# Altium schematic symbol library CBU-PCB.SchLib: 22 symbols
Pins are listed as number, name and electrical type; pins without a type are passive.

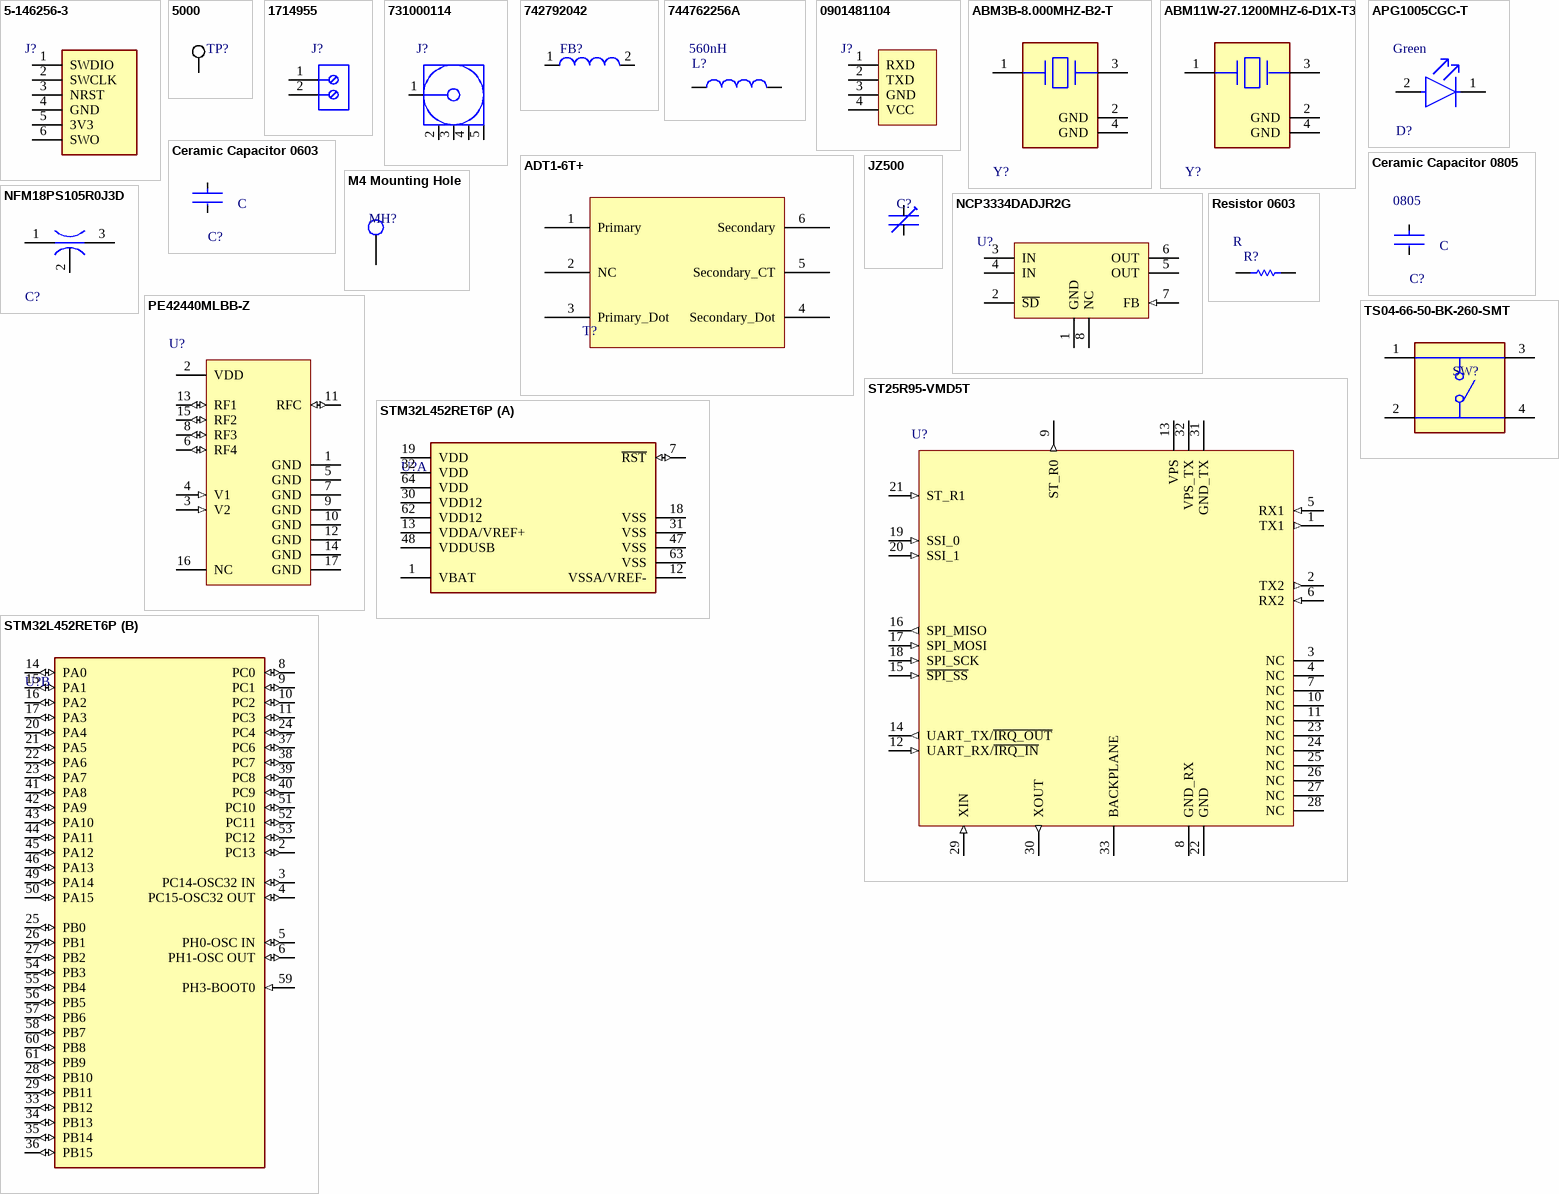
[diagram p0: symbols 5-146256-3 to TS04-66-50-BK-260-SMT]

## 5-146256-3
designator J?
Header; Breakaway; 0.100 x 0.100 in.; PC Board; Dual; 6; 0.025 in.; 0.12 in.; Centerline_Pitch: 2.54 mm[.1 in]; MP: 5-146256-3; Number_of_Positions: 6; MF: TE Connectivity; Product_Type: Connector; TE_purchase_URL: https://www.te.com/usa-en/product-5-146256-3.html?te_bu=Cor&te_type=disp&te_campaign=seda_glo_cor-seda-global-disp-prtnr-fy19-seda-model-bom-cta_sma-317_1&elqCampaignId=32493; SnapEDA_Link: https://www.snapeda.com/parts/5-146256-3/TE%20Connectivity/view-part/486039/?ref=snap; EU_RoHS_Compliance: Compliant; Value: *; Package: None; Digi-Key_Part_Number: A121369-ND; Digi-Key_Purchase_URL: https://www.digikey.com/product-detail/en/te-connectivity-amp-connectors/5-146256-3/A121369-ND/1153559?utm_source=snapeda&utm_medium=aggregator&utm_campaign=symbol; Supplier 1: Arrow Electronics; Supplier Part Number 1: 5-146256-3
footprint TE_5-146256-3
pins: 1 SWDIO, 2 SWCLK, 3 NRST, 4 GND, 5 3V3, 6 SWO

## 5000
designator TP?
Red PC Test Point, Miniature Phosphor Bronze Silver Plating Through Hole Mounting Type; Connector Type: Interconnection Device; Contact Finish - Termination: Silver (Ag); Reach SVHC Compliant: Yes; JESD-609 Code: e4; RoHS Compliant: Yes; Pins: 1; Mounting Technology: THT; Supplier 1: Future Electronics; Supplier Part Number 1: 8000564
footprint FP-5000-MFG
pins: 1

## 1714955
designator J?
PC Terminal Block, Pitch 6.35 mm, 1 x 2 Position, Height 21.5 mm, Tail Lenght 5.1 mm, RoHS, Bulk; Manufacturer: Phoenix Contact; Package Description: PC Terminal Block, Pitch 6.35 mm, 1 x 2 Position, Height 21.5 mm, Tail Lenght 5.1 mm; Datasheet URL: http://media.digikey.com/pdf/Data%20Sheets/Phoenix%20Contact%20PDFs/1714955.pdf; Package Reference: 1714955; Manufacturer URL: http://www.phoenixcontact.com/; Datasheet Version: 02/2010; Mounting Technology: ThroughHole; Supplier 1: Arrow Electronics; Supplier Part Number 1: 1714955
footprint 1714955 (Terminal Block, 2-Leads, Body 12.7x12.5mm, Pitch 6.35mm)
pins: 1, 2

## 731000114
designator J?
SMA Right-Angle PCB Jack Receptacle, Brass Body, Gold Plated, 50 Ohm, 5-Pin THD, RoHS, Tray; Manufacturer: Molex; Datasheet Version: 09/2016; Package Description: 5-Pin Through Hole Device, Body 14.8 x 6.35 mm, Pitch 2.54 mm; Datasheet URL: http://www.molex.com/webdocs/datasheets/pdf/en-us/0731000114_RF_COAX_CONNECTORS.pdf; Manufacturer URL: http://www.molex.com/; Package Reference: 731000114; Mounting Technology: ThroughHole; Package URL: http://www.molex.com/pdm_docs/sd/731000114_sd.pdf
footprint 731000114_V (Connector, 5-Leads, Body 14.8x6.35mm, Pitch 2.54mm)
pins: 1, 2, 3, 4, 5

## 742792042
designator FB?
SMD EMI Suppression Ferrite Bead WE-CBF, Z = 600 Ohm; Impedance: 600 Ohm; PackageDescription: Chip Inductor, 2-Leads, Body 2.0 x 1.2 mm; ComponentLink1Description: Manufacturer Link; PackageVersion: 2005; PackageReference: SMD-0805; ComponentLink2URL: http://www.we-online.de/katalog/media/pdf/742792042.pdf; ComponentLink2Description: Datasheet; DatasheetVersion: Dec-2005; ComponentLink1URL: http://www.we-online.com; Supplier 1: Digi-Key; Supplier Part Number 1: 732-4642-1-ND
footprint 742792042 (Chip Inductor, 2-Leads, Body 2.0x1.2mm)
pins: 1, 2

## 744762256A
designator L?  Inductance: 560nH
744762256A General Purpose Inductor, 0.56uH, 5%, 1 Element, Ceramic-Core, SMD, 1008; NexarPartId: 23392503; Max DC Current: 310mA; Frequency: 100MHz; Resistance: 1.17Ω; DC Resistance (DCR): 1.5Ω; Q Factor: 45; Shielding: Unshielded; Self Resonant Frequency: 430MHz; Inductance Tolerance: 5%; Packaging: Digi-Reel®; Case/Package: 1008; Core Material: Ceramic; Composition: Ceramic, Wirewound; Material: Ceramic; Termination: SMD/SMT; Case Code (Imperial): 1008; Weight: 20mg; Max Operating Temperature: 125°C; Current Rating: 310mA; Length: 2.5mm; Min Operating Temperature: -40°C; Height - Seated (Max): 1.905mm; Height: 1.6mm; Series Resistance: 1.5Ω; RoHS: Compliant; Ambient Temperature Range Low: -40°C; Width: 2mm; Mount: Surface Mount; Ambient Temperature Range High: 110°C; Test Frequency: 100MHz; Case Code (Metric): 2520; Tolerance: 5%; REACH SVHC: Unknown; Supplier 1: Digi-Key; Supplier Part Number 1: 732-1829-1-ND
footprint 744762256A (SMD Wire Wound Ceramic Inductor, body 2.50x2.00mm)
pins: 1, 2

## 0901481104
designator J?
4 Position Receptacle Connector 0.100" (2.54mm) Through Hole, Right Angle Tin, connector for DSD TECH HM-10 Bluetooth 4.0 BLE iBeacon UART Module with 4PIN Base Board for Arduino UNO R3 Mega 2560 Nan; Supplier 1: Mouser; Supplier Part Number 1: 538-90148-1104
footprint 0901481104 (4-pin right angle THT 0.1" pitch header with strain relief)
pins: 1 RXD, 2 TXD, 3 GND, 4 VCC

## ABM3B-8.000MHZ-B2-T
designator Y?
Crystal 8MHz ±20ppm 18pF SMD-4 5mm x 3.2mm; ESR (Equivalent Series Resistance): 200R; Frequency Stability: 50ppm; Operating Frequency: 8 MHz; Mount: Surface Mount; Number of Pins: 4; Packaging: Tape and Reel; Width: 0.126inch; Case/Package: CSMD; Lead Free: Lead Free; Depth: 3.2mm; Load Capacitance: 18pF; Min Operating Temperature: -20°C; Series: ABM3B; Package Quantity: 1000; Resistor Type: Ceramic; Height: 0.043inch; Max Operating Temperature: 70°C; Frequency Tolerance: 20ppm; Series Resistance: 200R; Tolerance: 20ppm; Termination: SMD/SMT; Length: 5mm; Frequency: 8MHz; Supplier 1: Future Electronics; Supplier Part Number 1: 2481760
footprint FP-ABM3B-MFG (Crystal 4-SMD, No Lead)
pins: 1, 2 GND (power), 3, 4 GND (power)

## ABM11W-27.1200MHZ-6-D1X-T3
designator Y?
Crystal 27.12MHz ±10ppm 6pF SMD-4 2mm x 1.6mm; ESR (Equivalent Series Resistance): 100R; Frequency Stability: 20ppm; Load Capacitance: 6pF; Case/Package: SMD/SMT; Min Operating Temperature: -40°C; Max Operating Temperature: 85°C; Frequency: 27.12MHz; Frequency Tolerance: 10ppm; Mount: Surface Mount; Packaging: Tape and Reel; Supplier 1: Digi-Key; Supplier Part Number 1: 535-13879-1-ND
footprint FP-ABM11W-MFG
pins: 1, 2 GND (power), 3, 4 GND (power)

## ADT1-6T+
designator T?
RF Balun 30kHz ~ 125MHz 50 / 50Ohm 6-SMD, Flat Leads; Supplier 1: Digi-Key; Supplier Part Number 1: 3157-ADT1-6T+CT-ND
footprint ADT1-6T+
pins: 1 Primary, 2 NC, 3 Primary_Dot, 4 Secondary_Dot, 5 Secondary_CT, 6 Secondary

## APG1005CGC-T
designator D?  Color: Green
LED GREEN CLEAR CHIP SMD; Forward Voltage: 2V; Lens Color: Colorless; Test Current: 20mA; Dominant Wavelength: 571nm; Viewing Angle: 120°; Luminous Intensity: 35mcd; Width: 0.5mm; Case Code (Imperial): 0402; Package Quantity: 1; Case/Package: 0402; Packaging: Tape and Reel; Height: 0.25mm; Mount: Surface Mount; Case Code (Metric): 1005; Length: 1mm; Lead Free: Lead Free; Lens Transparency: Clear; Supplier 1: Digi-Key; Supplier Part Number 1: 754-1811-1-ND
footprint FP-APG1005CGC-T-MFG
pins: 1 C, 2 A

## Ceramic Capacitor 0603
designator C?  value C
CAP CER 50V X7R 0603; Manufacturer: KEMET; Manufacturer Part Number: C0603C104K5RACTU; Tolerance: 0.1; Temperature Coefficient: 30ppm/°C; Material: Ceramic; Automotive Grade: Grade 1; Temperature: -55°C to +125°C; RoHS: TRUE; Temperature Range High: +125°C; Lead Free: Yes; Octopart: https://octopart.com/c0603c104k5ractu-kemet-139244; Digikey Description: CAP CER 0.1UF 50V X7R 0603; Category: Cap; Package: C0603C-CF; ComponentLink2Description: Datasheet; Temperature Range Low: -55°C; Device Class L1: Passive Components; Voltage Rating: 50 V; Automotive: Yes; Device Class L3: Ceramic Capacitors; ComponentLink2URL: https://api.kemet.com/component-edge/download/datasheet/C0603C100J5GACAUTO.pdf; Device Class L2: Capacitors; Temperature Characteristic: X7R; Height: 0.87mm; Supplier 1: Arrow Electronics; Supplier Part Number 1: CL10B104KB8NNNC
footprint FP-0603-Capacitor-CL10-IPC_B
pins: 1, 2

## Ceramic Capacitor 0805
designator C?  value C  Package: 0805
CAP CER 50V X7R 0805; Manufacturer: KEMET; Manufacturer Part Number: C0603C104K5RACTU; Tolerance: 0.1; Temperature Coefficient: 30ppm/°C; Material: Ceramic; Automotive Grade: Grade 1; Temperature: -55°C to +125°C; RoHS: TRUE; Temperature Range High: +125°C; Lead Free: Yes; Octopart: https://octopart.com/c0603c104k5ractu-kemet-139244; Digikey Description: CAP CER 0.1UF 50V X7R 0603; Category: Cap; ComponentLink2Description: Datasheet; Temperature Range Low: -55°C; Device Class L1: Passive Components; Voltage Rating: 50 V; Automotive: Yes; Device Class L3: Ceramic Capacitors; ComponentLink2URL: https://api.kemet.com/component-edge/download/datasheet/C0603C100J5GACAUTO.pdf; Device Class L2: Capacitors; Temperature Characteristic: X7R; Height: 0.87mm; Supplier 1: Arrow Electronics; Supplier Part Number 1: CL21B105KBFNNNG
footprint FP-0805-Capacitor-CL21-IPC_B
pins: 1, 2

## JZ500
designator C?
8 ~ 50pF Trimmer Capacitor 125 V Top Surface Mount
footprint JZXXX_Trim_Capacitor (Trimmer Capacitor Top Surface Mount)
pins: 1, 2

## M4 Mounting Hole
designator MH?
footprint M4 Mounting Hole
pins: 1

## NCP3334DADJR2G
designator U?
Linear Voltage Regulator IC Positive Adjustable 1 Output 500mA 8-SOIC; Supplier 1: Arrow Electronics; Supplier Part Number 1: NCP3334DADJR2G
footprint NCP3334DADJR2G (SOIC, 8-Leads, Body 4.90x3.90mm, Pitch 1.27mm, IPC Medium Density)
pins: 1 GND (power), 2 ~{SD} (power), 3 IN (power), 4 IN (power), 5 OUT (power), 6 OUT (power), 7 FB (in), 8 NC

## NFM18PS105R0J3D
designator C?
Large Current 3 Terminals Low ESL Chip Multilayer Ceramic Capacitors for General Purpose, 0603, 1uF, 20%, 6.3V; Current Rating: 2A; DC Resistance (DCR): 30mR; Insulation Resistance: 500MR; Max Voltage Rating (DC): 6.3V; Voltage: 6.3V; Weight: 7.1E-05oz; Height: 0.6mm; Lead Free: Lead Free; REACH SVHC: No SVHC; Max Operating Temperature: 105°C; Min Operating Temperature: -55°C; Mount: Surface Mount; Capacitance: 1uF; Width: 0.8mm; Radiation Hardening: No; Max Current Rating: 2A; Case Code (Imperial): 0603; Voltage Rating (DC): 6.3V; Length: 1.6mm; Case/Package: 0603; Case Code (Metric): 1608; Package Quantity: 1; Tolerance: 20%; Current: 2A; Packaging: Tape and Reel; Depth: 0.8mm; Voltage Rating: 6.3V; Termination: Flat; Supplier 1: Arrow Electronics; Supplier Part Number 1: NFM18PS105R0J3D
footprint FP-NFM18-0_1-e0_05_0_35-MFG
pins: 1 Input, 2 GND, 3 Output

## PE42440MLBB-Z
designator U?
RF Switch IC General Purpose SP4T 3 GHz 50Ohm 16-QFN (3x3); Supplier 1: Digi-Key; Supplier Part Number 1: 1046-1038-1-ND
footprint PE42440MLBB-Z (QFN, 16-Leads, Body 3.00x3.00mm, Pitch 0.50mm, Thermal Pad 1.70x1.70mm, IPC Medium Density)
pins: 1 GND (power), 2 VDD (power), 3 V2 (in), 4 V1 (in), 5 GND (power), 6 RF4 (io), 7 GND (power), 8 RF3 (io), 9 GND (power), 10 GND (power), 11 RFC (io), 12 GND (power), 13 RF1 (io), 14 GND (power), 15 RF2 (io), 16 NC, 17 GND (power)

## Resistor 0603
designator R?, comment value R  (hidden comment: RC0603FR-072K2L)
Thick Film Resistor, 2.2 KOhm, 100 mW, 50 V, +/- 1%, -55 to 155 degC, 2-Pin SMD (0603), RoHS, Tape and Reel; Manufacturer: Yageo; Temperature Coefficient: 100PPM/C; Voltage Rating: 50V; Power Rating: 100mW; Tolerance: 1%; Datasheet Version: Rev. 7, 05/2017; Case Code - mm: 1608; Series: RC; Mounting Technology: SurfaceMount; Package Description: 2-Pin Surface Mount Device, Body 1.6 x 0.8 mm; Case Code - in: 0603; Package Reference: 0603; Product: ThickFilmResistorsGeneralPurpose; Manufacturer URL: http://www.yageo.com/; Termination Style: SMD/SMT; Operating Temperature Range: -55Cto+155C; Datasheet URL: http://www.yageo.com/documents/recent/PYu-RC_Group_51_RoHS_L_7.pdf; Packaging: Reel
footprint RESC1608X55X25NL10T15 (Chip Resistor, 2-Leads, Body 1.70x0.90mm, IPC Medium Density)
pins: 1, 2

## ST25R95-VMD5T
designator U?
RFID Reader IC 13.56MHz FeliCa, ISO 14443, ISO 15693, ISO 18000-3, MIFARE, NFC SPI 2.7V ~ 5.5V 32-VFQFN Exposed Pad; Supplier 1: Mouser; Supplier Part Number 1: 511-ST25R95-VMD5T
footprint ST25R95-VMD5T (QFN, 32-Leads, Body 5.00x5.00mm, Pitch 0.50mm, Thermal Pad 3.45x3.45mm, IPC Medium Density)
pins: 1 TX1 (out), 2 TX2 (out), 3 NC, 4 NC, 5 RX1 (in), 6 RX2 (in), 7 NC, 8 GND_RX (power), 9 ST_R0 (out), 10 NC, 11 NC, 12 UART_RX/~{IRQ_IN} (in), 13 VPS (power), 14 UART_TX/~{IRQ_OUT} (out), 15 ~{SPI_SS} (in), 16 SPI_MISO (out), 17 SPI_MOSI (in), 18 SPI_SCK (in), 19 SSI_0 (in), 20 SSI_1 (in), 21 ST_R1 (in), 22 GND (power), 23 NC, 24 NC, 25 NC, 26 NC, 27 NC, 28 NC, 29 XIN (in), 30 XOUT (out), 31 GND_TX (power), 32 VPS_TX (power), 33 BACKPLANE

## STM32L452RET6P
designator U?
IC MCU 32BIT 512KB FLASH 64LQFP; Manufacturer Part Number: STM32L452RET6P; Manufacturer: STMicroelectronics; Frequency: 80MHz; Number Of Adc Channels: 16; Ram Size: 160KBytes; Max Junction Temp: +105°C; Number Of I2C Channels: 4; Number Of Cores: 1; Number Of I/Os: 52; Data Bus Width: 32bits; Max Supply Voltage: 3.6V; Standoff Height: 0.05mm; Min Supply Voltage: 1.05V; Core Architecture: ARM Cortex-M4; Memory Size: 512KBytes; Number Of Spi Channels: 3; Interface: I2C,SPI,UART,USART,CAN,USB,LIN,IrDA,Other; Number Of Pwm Channels: 20; Number Of Uart Channels: 5; Number Of Timers/Counters: 8; Ambient Temperature Range High: +85°C; Height: 1.6mm; Memory Type: FLASH; ComponentLink2Description: Datasheet; Number Of Usb Channels: 1; Number Of A/D Converters: 1; Automotive: No; RoHS: TRUE; ComponentLink2URL: https://www.st.com/resource/en/datasheet/stm32l452re.pdf; Digikey Description: IC MCU 32BIT 512KB FLASH 64LQFP; Temperature Range High: +105°C; Category: IC; Octopart: https://octopart.com/stm32l452ret6p-stmicroelectronics-82945027; Device Class L1: Integrated Circuits (ICs); Temperature Range Low: -40°C; Device Class L3: Microcontrollers; Temperature: -40°C to +105°C; Device Class L2: Embedded Processors and Controllers; Ambient Temperature Range Low: -40°C; Lead Free: Yes; Package: LQFP64; Supplier 1: Mouser; Supplier Part Number 1: 511-STM32L452RET6P
footprint FP-STM32L452RET6P-MFG
part A pins: 1 VBAT (power), 7 ~{RST} (io), 12 VSSA/VREF- (power), 13 VDDA/VREF+ (power), 18 VSS (power), 19 VDD (power), 30 VDD12 (power), 31 VSS (power), 32 VDD (power), 47 VSS (power), 48 VDDUSB (power), 62 VDD12 (power), 63 VSS (power), 64 VDD (power)
part B pins: 2 PC13 (io), 3 PC14-OSC32 IN (io), 4 PC15-OSC32 OUT (io), 5 PH0-OSC IN (io), 6 PH1-OSC OUT (io), 8 PC0 (io), 9 PC1 (io), 10 PC2 (io), 11 PC3 (io), 14 PA0 (io), 15 PA1 (io), 16 PA2 (io), 17 PA3 (io), 20 PA4 (io), 21 PA5 (io), 22 PA6 (io), 23 PA7 (io), 24 PC4 (io), 25 PB0 (io), 26 PB1 (io), 27 PB2 (io), 28 PB10 (io), 29 PB11 (io), 33 PB12 (io), 34 PB13 (io), 35 PB14 (io), 36 PB15 (io), 37 PC6 (io), 38 PC7 (io), 39 PC8 (io), 40 PC9 (io), 41 PA8 (io), 42 PA9 (io), 43 PA10 (io), 44 PA11 (io), 45 PA12 (io), 46 PA13 (io), 49 PA14 (io), 50 PA15 (io), 51 PC10 (io), 52 PC11 (io), 53 PC12 (io), 54 PB3 (io), 55 PB4 (io), 56 PB5 (io), 57 PB6 (io), 58 PB7 (io), 59 PH3-BOOT0 (in), 60 PB8 (io), 61 PB9 (io)

## TS04-66-50-BK-260-SMT
designator SW?
Tactile Switch SPST-NO Top Actuated Surface Mount; MP: TS04-66-50-BK-260-SMT; Value: *; Package: None; Availability: Unavailable; Price: None; Supplier 1: Mouser; Supplier Part Number 1: 179-TS046650BK260SMT
footprint SW_TS04-66-50-BK-260-SMT
pins: 1, 2, 3, 4